# Altium schematic symbol library flight-controller.SchLib: 114 symbols
Pins are listed as number, name and electrical type; pins without a type are passive.

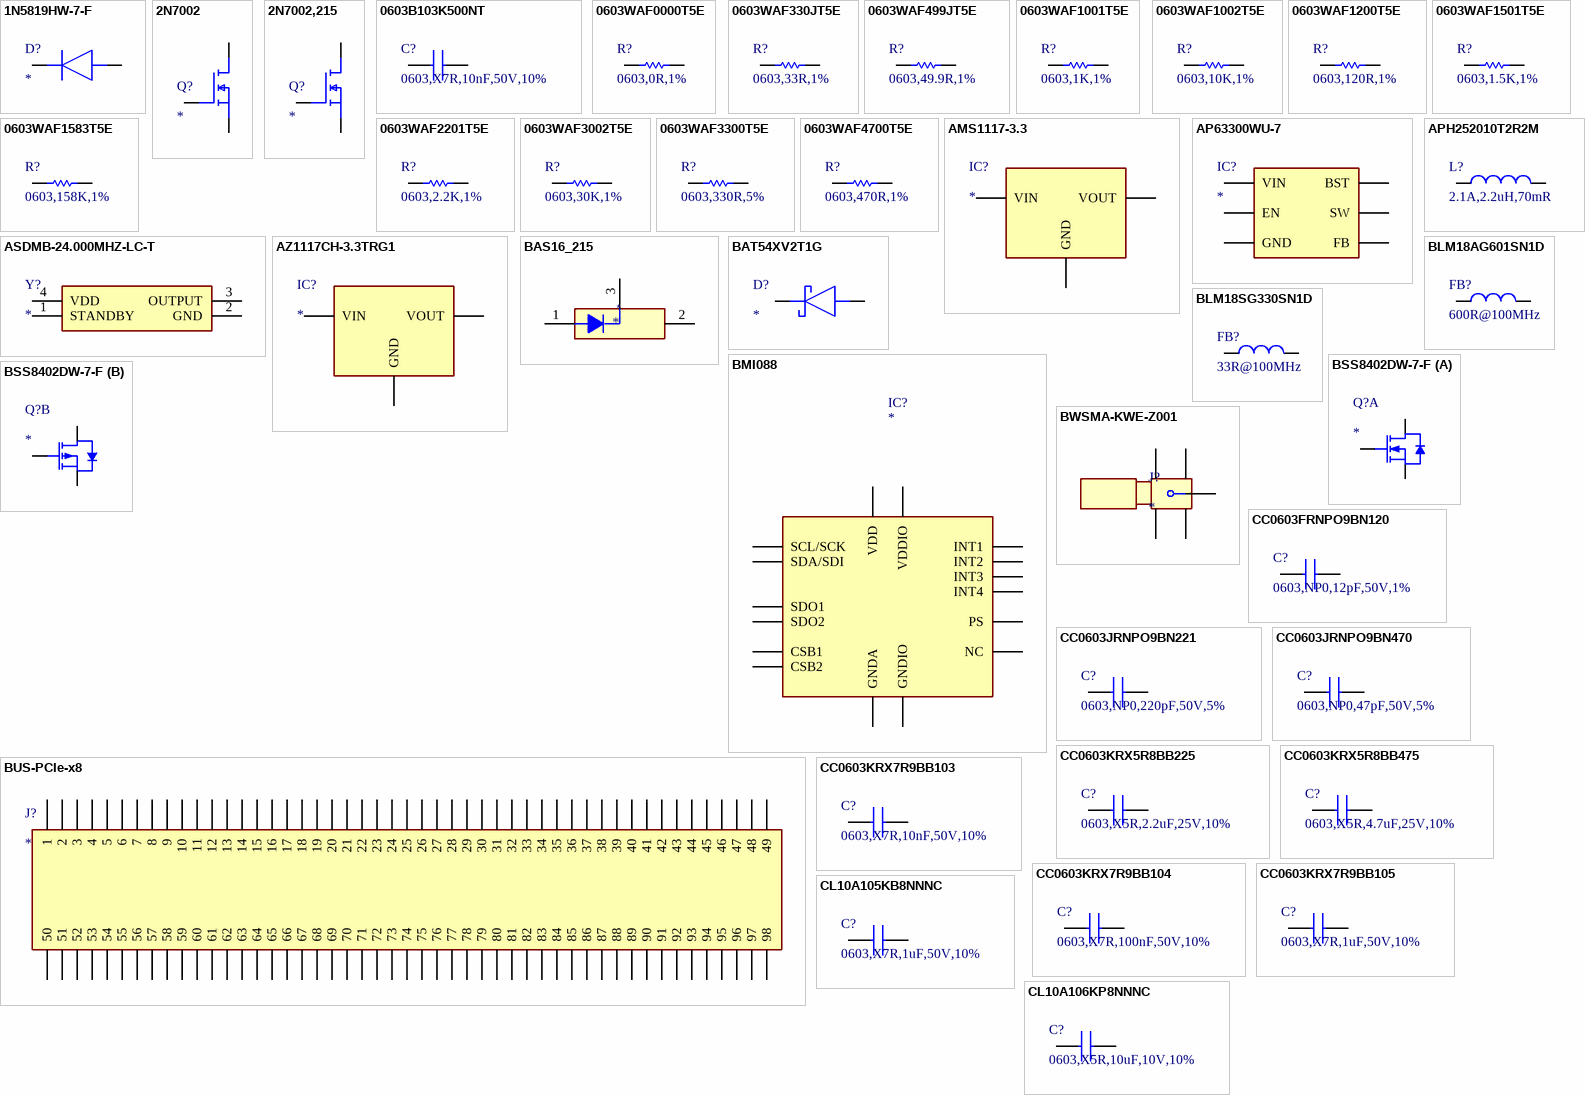
[diagram p0: symbols 1N5819HW-7-F to CL10A106KP8NNNC]

## 1N5819HW-7-F
designator D?
25A 1 Independent 40V 450mV@1A 1A SOD-123 Single Diodes RoHS; Manu Part #: 1N5819HW-7-F; LCSC Part #: C82544
footprint SOD3716X125N
pins: 1 K, 2 A

## 2N7002
designator Q?
N-Channel 60V 300mA 830mW Surface Mount SOT-23; Manu Part #: 2N7002; LCSC Part #: C8545
footprint SOT95P230X110-3N
pins: 1 G, 2 S, 3 D

## 2N7002,215
designator Q?
N-Channel 60V 300mA 830mW Surface Mount SOT-23; Manu Part #: 2N7002,215; LCSC Part #: C65189
footprint SOT95P230X110-3N
pins: 1 G, 2 S, 3 D

## 0603B103K500NT
designator C?, comment 0603,X7R,10nF,50V,10%
10nF ±10% 50V Ceramic Capacitor X7R 0603; Manu Part #: 0603B103K500NT; LCSC Part #: C57112
footprint CAPC1608X90N
pins: 1, 2

## 0603WAF0000T5E
designator R?, comment 0603,0R,1%
0Ω 100mW 75V Thick Film Resistor ±1% 0603 Chip Resistor - Surface Mount RoHS; Manu Part #: 0603WAF0000T5E; LCSC Part #: C21189
footprint RESC1608X90N
pins: 1, 2

## 0603WAF330JT5E
designator R?, comment 0603,33R,1%
100mW 33Ω 75V Thick Film Resistor ±100ppm/℃ ±1% 0603 Chip Resistor - Surface Mount RoHS; Manu Part #: 0603WAF330JT5E; LCSC Part #: C23140
footprint RESC1608X90N
pins: 1, 2

## 0603WAF499JT5E
designator R?, comment 0603,49.9R,1%
-55℃~+155℃ 100mW 49.9Ω 75V Thick Film Resistor ±1% ±100ppm/℃ 0603 Chip Resistor - Surface Mount ROHS; Manu Part #: 0603WAF499JT5E; LCSC Part #: C23185
footprint RESC1608X90N
pins: 1, 2

## 0603WAF1001T5E
designator R?, comment 0603,1K,1%
100mW 1kΩ 75V Thick Film Resistor ±100ppm/℃ ±1% 0603 Chip Resistor - Surface Mount RoHS; Manu Part #: 0603WAF1001T5E; LCSC Part #: C21190
footprint RESC1608X90N
pins: 1, 2

## 0603WAF1002T5E
designator R?, comment 0603,10K,1%
100mW Thick Film Resistor 75V ±100ppm/℃ ±1% 10kΩ 0603 Chip Resistor - Surface Mount ROHS; Manu Part #: 0603WAF1002T5E; LCSC Part #: C25804
footprint RESC1608X90N
pins: 1, 2

## 0603WAF1200T5E
designator R?, comment 0603,120R,1%
-55℃~+155℃ 100mW 120Ω 75V Thick Film Resistor ±1% ±100ppm/℃ 0603 Chip Resistor - Surface Mount ROHS; Manu Part #: 0603WAF1200T5E; LCSC Part #: C22787
footprint RESC1608X90N
pins: 1, 2

## 0603WAF1501T5E
designator R?, comment 0603,1.5K,1%
100mW 1.5kΩ 75V Thick Film Resistor ±100ppm/℃ ±1% 0603 Chip Resistor - Surface Mount RoHS; Manu Part #: 0603WAF1501T5E; LCSC Part #: C22843
footprint RESC1608X90N
pins: 1, 2

## 0603WAF1583T5E
designator R?, comment 0603,158K,1%
-55℃~+155℃ 100mW 158kΩ 75V Thick Film Resistor ±1% ±100ppm/℃ 0603 Chip Resistor - Surface Mount ROHS; Manu Part #: 0603WAF1583T5E; LCSC Part #: C22883
footprint RESC1608X90N
pins: 1, 2

## 0603WAF2201T5E
designator R?, comment 0603,2.2K,1%
2.2kΩ ±1% 100mW 0603 Thick Film Resistor; Manu Part #: 0603WAF2201T5E; LCSC Part #: C4190
footprint RESC1608X90N
pins: 1, 2

## 0603WAF3002T5E
designator R?, comment 0603,30K,1%
-55℃~+155℃ 100mW 30kΩ 75V Thick Film Resistor ±1% ±100ppm/℃ 0603 Chip Resistor - Surface Mount ROHS; Manu Part #: 0603WAF3002T5E; LCSC Part #: C22984
footprint RESC1608X90N
pins: 1, 2

## 0603WAF3300T5E
designator R?, comment 0603,330R,5%
330 Ohms ±5% 0.1W, 1/10W Chip Resistor 0603 (1608 Metric) Moisture Resistant Thick Film; Manu Part #: 0603WAF3300T5E; LCSC Part #: C23138
footprint RESC1608X90N
pins: 1, 2

## 0603WAF4700T5E
designator R?, comment 0603,470R,1%
-55℃~+155℃ 100mW 470Ω 75V Thick Film Resistor ±1% ±100ppm/℃ 0603 Chip Resistor - Surface Mount ROHS; Manu Part #: 0603WAF4700T5E; LCSC Part #: C23179
footprint RESC1608X90N
pins: 1, 2

## AMS1117-3.3
designator IC?
70dB@(120Hz) 1.35A Fixed 3.3V Positive 10V SOT-223 Voltage Regulators - Linear, Low Drop Out (LDO) Regulators ROHS; Manu Part #: AMS1117-3.3; LCSC Part #: C6186
footprint SOT230P700X180-4N
pins: 1 GND, 2 OUTPUT, 3 VIN, 4 VOUT

## AP63300WU-7
designator IC?
3.8V to 32V Input, 3A Low IQ Synchronous Buck Converter with Enhanced EMI Reduction; Manu Part #: AP63300WU-7; LCSC Part #: C2158012
footprint SOT95P280X90-6N
pins: 1 FB, 2 EN, 3 VIN, 4 GND, 5 SW, 6 BST

## APH252010T2R2M
designator L?, comment 2.1A,2.2uH,70mR
380mΩ ±25% 600Ω@100MHz 0603 Ferrite Beads ROHS; Manu Part #: APH252010T2R2M; LCSC Part #: C5349606
footprint IND-SMD_L2.5-W2.0_YXMBL252010P
pins: 1, 2

## ASDMB-24.000MHZ-LC-T
designator Y?
Crystal or Oscillator; Manufacturer_Name: ABRACON; Manufacturer_Part_Number: ASDMB-24.000MHZ-LC-T; Datasheet Link: https://abracon.com/Oscillators/ASDMB.pdf; Height: 0.9mm; Mouser Part Number: 815-ASDMB-24MHZ-LC; Mouser Price/Stock: https://www.mouser.co.uk/ProductDetail/ABRACON/ASDMB-24.000MHZ-LC-T?qs=3YAjQa1E1Okjp7CSlslF1w%3D%3D; Arrow Part Number: ASDMB-24.000MHZ-LC-T; Arrow Price/Stock: https://www.arrow.com/en/products/asdmb-24.000mhz-lc-t/abracon?utm_currency=USD&region=nac
footprint AbraconASDMB
pins: 1 STANDBY, 2 GND, 3 OUTPUT, 4 VDD

## AZ1117CH-3.3TRG1
designator IC?
70dB@(120Hz) 1.35A Fixed 3.3V Positive 10V SOT-223 Voltage Regulators - Linear, Low Drop Out (LDO) Regulators ROHS; Manu Part #: AZ1117CH-3.3TRG1; LCSC Part #: C92102
footprint SOT230P700X180-4N
pins: 1 GND, 2 OUTPUT, 3 VIN, 4 VOUT

## BAS16_215
designator *
1.25V@150mA 100V 215mA 250mW 4A 4ns 500nA@80V Independent SOT-23 Switching Diodes ROHS; Manu Part #: BAS16,215; LCSC Part #: C79997
footprint BAS16_215
pins: 1, 2, 3

## BAT54XV2T1G
designator D?
Diode 30V 200mA Surface Mount SOD-523; Manu Part #: BAT54XV2T1G; LCSC Part #: C81572
footprint SOD523
pins: 1 K, 2 A

## BLM18AG601SN1D
designator FB?, comment 600R@100MHz
380mΩ ±25% 600Ω@100MHz 0603 Ferrite Beads ROHS; Manu Part #: BLM18AG601SN1D; LCSC Part #: C19330
footprint BLM18SP221SN1B
pins: 1, 2

## BLM18SG330SN1D
designator FB?, comment 33R@100MHz
33Ω@100MHz 1 Line Ferrite Bead 0603 6A 8mΩ; Manu Part #: BLM18SG330SN1D; LCSC Part #: C576399
footprint BLM18SP221SN1B
pins: 1, 2

## BMI088
designator IC?
Inertial Measurement Unit IMU 6-Axis LGA; Manu Part #: BMI088; LCSC Part #: C194919
footprint BMI088
pins: 1 INT2, 2 NC, 3 VDD, 4 GNDA, 5 CSB2, 6 GNDIO, 7 PS, 8 SCL/SCK, 9 SDA/SDI, 10 SDO2, 11 VDDIO, 12 INT3, 13 INT4, 14 CSB1, 15 SDO1, 16 INT1

## BSS8402DW-7-F
designator Q?
N-Channel+P-Channel Array 60V 130mA 200mW Surface Mount SOT-363; Manu Part #: BSS8402DW-7-F; LCSC Part #: C156386
footprint SOT65P210X110-6N
part A pins: 1 S1, 2 G1, 6 D1
part B pins: 3 D2, 4 S2, 5 G2

## BUS-PCIe-x8
designator J?  (no BOM)
PCIe x8
footprint BUS_PCIexpress_x8
pins: 1, 2, 3, 4, 5, 6, 7, 8, 9, 10, 11, 12, 13, 14, 15, 16, 17, 18, 19, 20, 21, 22, 23, 24, 25, 26, 27, 28, 29, 30, 31, 32, 33, 34, 35, 36, 37, 38, 39, 40, 41, 42, 43, 44, 45, 46, 47, 48, 49, 50, 51, 52, 53, 54, 55, 56, 57, 58, 59, 60, 61, 62, 63, 64, 65, 66, 67, 68, 69, 70, 71, 72, 73, 74, 75, 76, 77, 78, 79, 80, 81, 82, 83, 84, 85, 86, 87, 88, 89, 90, 91, 92, 93, 94, 95, 96, 97, 98

## BWSMA-KWE-Z001
designator J?
Connector Receptacle SMA Female Pin 50Ω Through Hole Right Angle; Manu Part #: BWSMA-KWE-Z001; LCSC Part #: C496551
footprint SMA-TH_BWSMA-KWE-Z001
pins: 1, 2, 3, 4, 5

## CC0603FRNPO9BN120
designator C?, comment 0603,NP0,12pF,50V,1%
12pF ±1% 50V Ceramic Capacitor NP0 0603; Manu Part #: CC0603FRNPO9BN120; LCSC Part #: C519482
footprint CAPC1608X90N
pins: 1, 2

## CC0603JRNPO9BN221
designator C?, comment 0603,NP0,220pF,50V,5%
220pF ±5% 50V Ceramic Capacitor NP0 0603; Manu Part #: CC0603JRNPO9BN221; LCSC Part #: C106210
footprint CAPC1608X90N
pins: 1, 2

## CC0603JRNPO9BN470
designator C?, comment 0603,NP0,47pF,50V,5%
47 pF ±5% 50V Ceramic Capacitor C0G, NP0 0603 (1608 Metric); Manu Part #: CC0603JRNPO9BN470; LCSC Part #: C105622
footprint CAPC1608X90N
pins: 1, 2

## CC0603KRX5R8BB225
designator C?, comment 0603,X5R,2.2uF,25V,10%
2.2 µF ±10% 25V Ceramic Capacitor X5R 0603 (1608 Metric); Manufacturer_Name: YAGEO; Manufacturer_Part_Number: CC0603JRNPO9BN560; Manu Part #: CC0603KRX5R8BB225; Datasheet Link: https://www.yageo.com/upload/media/product/app/datasheet/mlcc/upy-gphc_x7r_6_3v-to-250v.pdf; Height: 0.95mm; Mouser Part Number: 603-CC603KRX7R9BB105; Mouser Price/Stock: https://www.mouser.co.uk/ProductDetail/YAGEO/CC0603KRX7R9BB105?qs=6wERJjOp3mmF17%252BYi8cgJQ%3D%3D; Arrow Part Number: CC0603KRX7R9BB105; Arrow Price/Stock: https://www.arrow.com/en/products/cc0603krx7r9bb105/yageo?utm_currency=USD&region=nac; LCSC Part #: C309478
footprint CAPC1608X90N
pins: 1, 2

## CC0603KRX5R8BB475
designator C?, comment 0603,X5R,4.7uF,25V,10%
4.7uF ±10% 25V Ceramic Capacitor X5R 0603; Manu Part #: CC0603KRX5R8BB475; LCSC Part #: C32658069
footprint CAPC1608X90N
pins: 1, 2

## CC0603KRX7R9BB103
designator C?, comment 0603,X7R,10nF,50V,10%
10nF ±10% 50V Ceramic Capacitor X7R 0603; Manu Part #: CC0603KRX7R9BB103; LCSC Part #: C100042
footprint CAPC1608X90N
pins: 1, 2

## CC0603KRX7R9BB104
designator C?, comment 0603,X7R,100nF,50V,10%
50V 100nF X7R ±10% 0603 Multilayer Ceramic Capacitors MLCC - SMD/SMT ROHS; Manu Part #: CC0603KRX7R9BB104; LCSC Part #: C14663
footprint CAPC1608X90N
pins: 1, 2

## CC0603KRX7R9BB105
designator C?, comment 0603,X7R,1uF,50V,10%
50V 1uF X7R ±10% 0603 Multilayer Ceramic Capacitors MLCC - SMD/SMT ROHS; Manu Part #: CC0603KRX7R9BB105; LCSC Part #: C559769
footprint CAPC1608X90N
pins: 1, 2

## CL10A105KB8NNNC
designator C?, comment 0603,X7R,1uF,50V,10%
50V 1uF X7R ±10% 0603 Multilayer Ceramic Capacitors MLCC - SMD/SMT ROHS; Manu Part #: CL10A105KB8NNNC; LCSC Part #: C15849
footprint CAPC1608X90N
pins: 1, 2

## CL10A106KP8NNNC
designator C?, comment 0603,X5R,10uF,10V,10%
10uF ±10% 10V Ceramic Capacitor X5R 0603; Manu Part #: CL10A106KP8NNNC; LCSC Part #: C19702
footprint CAPC1608X90N
pins: 1, 2

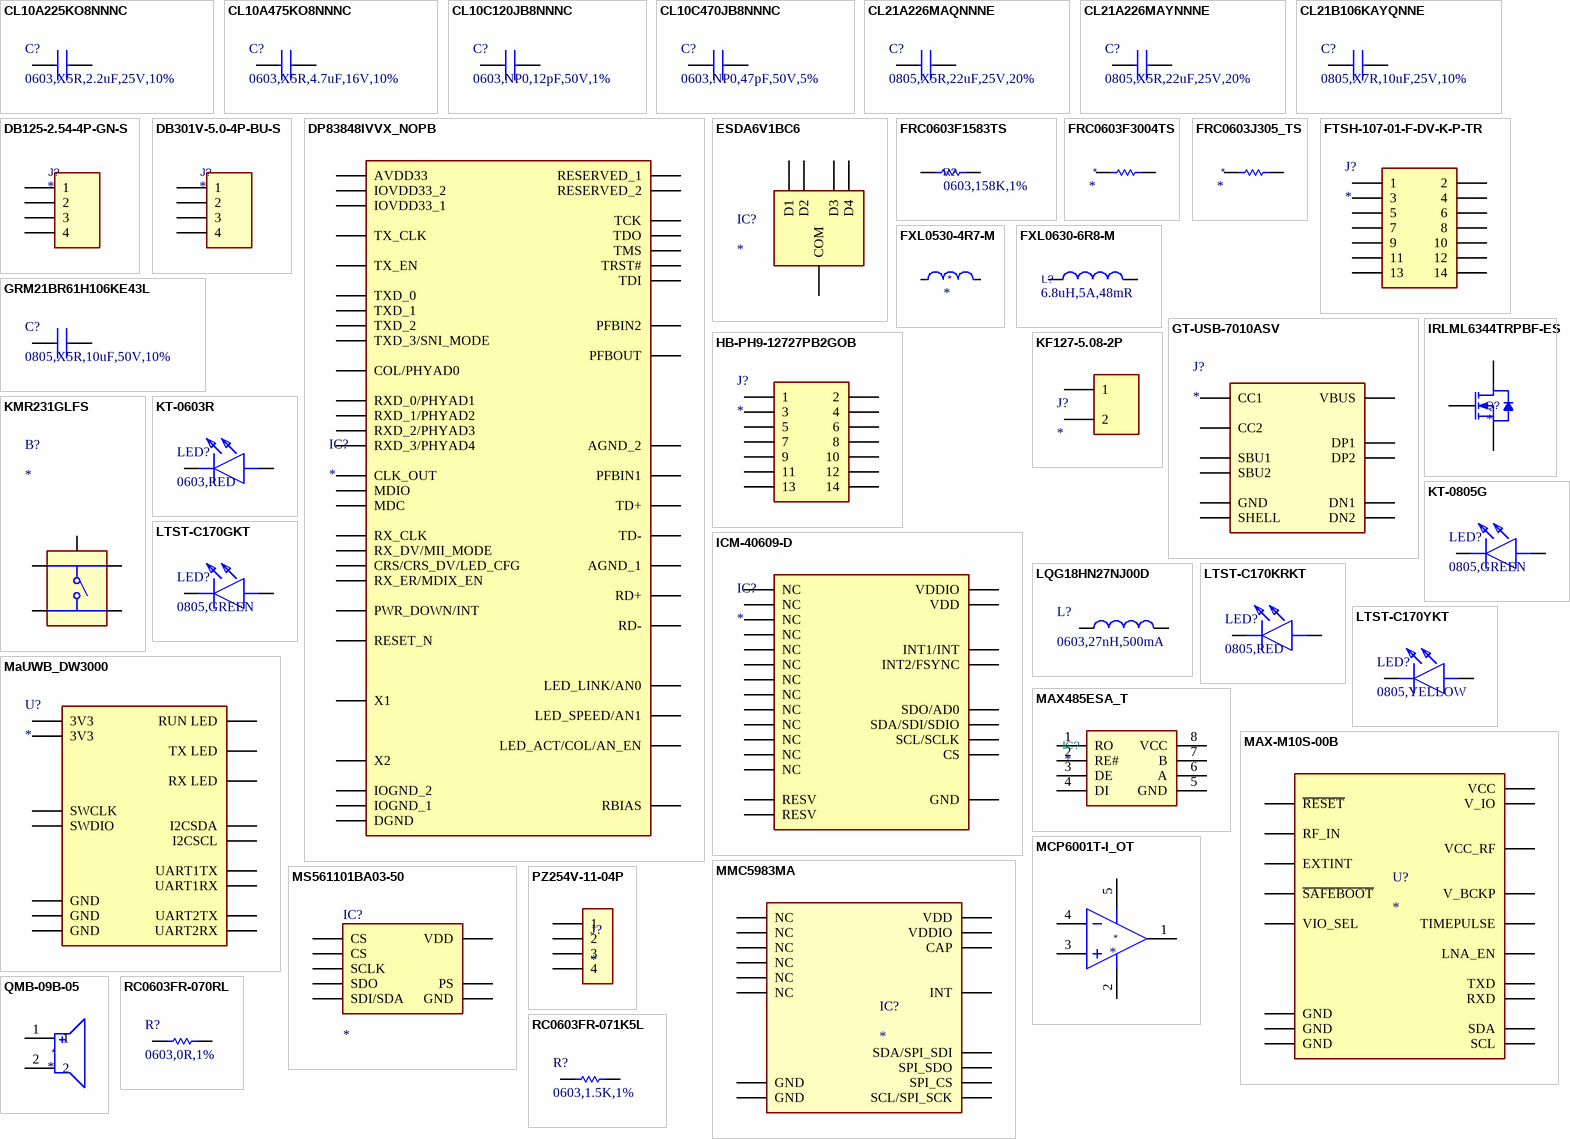
[diagram p1: symbols CL10A225KO8NNNC to RC0603FR-071K5L]

## CL10A225KO8NNNC
designator C?, comment 0603,X5R,2.2uF,25V,10%
2.2 µF ±10% 25V Ceramic Capacitor X5R 0603 (1608 Metric); Manu Part #: CL10A225KO8NNNC; LCSC Part #: C23630
footprint CAPC1608X90N
pins: 1, 2

## CL10A475KO8NNNC
designator C?, comment 0603,X5R,4.7uF,16V,10%
16V 4.7uF X5R ±10% 0603 Multilayer Ceramic Capacitors MLCC - SMD/SMT ROHS; Manu Part #: CL10A475KO8NNNC; LCSC Part #: C19666
footprint CAPC1608X90N
pins: 1, 2

## CL10C120JB8NNNC
designator C?, comment 0603,NP0,12pF,50V,1%
12pF ±1% 50V Ceramic Capacitor NP0 0603; Manu Part #: CL10C120JB8NNNC; LCSC Part #: C38523
footprint CAPC1608X90N
pins: 1, 2

## CL10C470JB8NNNC
designator C?, comment 0603,NP0,47pF,50V,5%
47 pF ±5% 50V Ceramic Capacitor C0G, NP0 0603 (1608 Metric); Manu Part #: CL10C470JB8NNNC; LCSC Part #: C1671
footprint CAPC1608X90N
pins: 1, 2

## CL21A226MAQNNNE
designator C?, comment 0805,X5R,22uF,25V,20%
22uF ±20% 25V Ceramic Capacitor X5R 0805; Manu Part #: CL21A226MAQNNNE; LCSC Part #: C45783
footprint CAPC2012X145N
pins: 1, 2

## CL21A226MAYNNNE
designator C?, comment 0805,X5R,22uF,25V,20%
22uF ±20% 25V Ceramic Capacitor X5R 0805; Manu Part #: CL21A226MAYNNNE; LCSC Part #: C602037
footprint CAPC2012X145N
pins: 1, 2

## CL21B106KAYQNNE
designator C?, comment 0805,X7R,10uF,25V,10%
10uF ±10% 25V Ceramic Capacitor X7R 0805; Manu Part #: CL21B106KAYQNNE; LCSC Part #: C3039694
footprint CAPC2012X145N
pins: 1, 2

## DB125-2.54-4P-GN-S
designator J?
4 Position Wire to Board Terminal Block Through Hole 2.54mm; Manu Part #: DB125-2.54-4P-GN-S; LCSC Part #: C918122
footprint DB125-2_54-4P-GN
pins: 1, 2, 3, 4

## DB301V-5.0-4P-BU-S
designator J?
4 Position Wire to Board Terminal Block Through Hole 5mm; Manu Part #: DB301V-5.0-4P-BU-S; LCSC Part #: C3034542
footprint DB301V-5_0-4P-BU-S
pins: 1, 2, 3, 4

## DP83848IVVX_NOPB
designator IC?
Single Port 10/100 Mb/s Ethernet Physical Layer Transceiver; Manu Part #: DP83848IVVX/NOPB; LCSC Part #: C12082
footprint QFP50P900X900X160-48N
pins: 1 TX_CLK, 2 TX_EN, 3 TXD_0, 4 TXD_1, 5 TXD_2, 6 TXD_3/SNI_MODE, 7 PWR_DOWN/INT, 8 TCK, 9 TDO, 10 TMS, 11 TRST#, 12 TDI, 13 RD-, 14 RD+, 15 AGND_1, 16 TD-, 17 TD+, 18 PFBIN1, 19 AGND_2, 20 RESERVED_1, 21 RESERVED_2, 22 AVDD33, 23 PFBOUT, 24 RBIAS, 25 CLK_OUT, 26 LED_ACT/COL/AN_EN, 27 LED_SPEED/AN1, 28 LED_LINK/AN0, 29 RESET_N, 30 MDIO, 31 MDC, 32 IOVDD33_1, 33 X2, 34 X1, 35 IOGND_1, 36 DGND, 37 PFBIN2, 38 RX_CLK, 39 RX_DV/MII_MODE, 40 CRS/CRS_DV/LED_CFG, 41 RX_ER/MDIX_EN, 42 COL/PHYAD0, 43 RXD_0/PHYAD1, 44 RXD_1/PHYAD2, 45 RXD_2/PHYAD3, 46 RXD_3/PHYAD4, 47 IOGND_2, 48 IOVDD33_2

## ESDA6V1BC6
designator IC?
Clamp Ipp Tvs Diode Surface Mount SOT-23-6; Manu Part #: ESDA6V1BC6; LCSC Part #: C495220
footprint SOT95P280X145-6N
pins: 1 D1, 2 COM, 3 D2, 4 D3, 5 COM, 6 D4

## FRC0603F1583TS
designator R?, comment 0603,158K,1%
-55℃~+155℃ 100mW 158kΩ 75V Thick Film Resistor ±1% ±100ppm/℃ 0603 Chip Resistor - Surface Mount ROHS; Manu Part #: FRC0603F1583TS
footprint RESC1608X55N
pins: 1, 2

## FRC0603F3004TS
designator *
-55℃~+155℃ 100mW 3MΩ 75V Thick Film Resistor ±1% ±100ppm/℃ 0603 Chip Resistor - Surface Mount ROHS; Manu Part #: FRC0603F3004TS; LCSC Part #: C2930149
footprint RESC1608X55N
pins: 1, 2

## FRC0603J305_TS
designator *
-55℃~+155℃ 100mW 3MΩ 75V Thick Film Resistor ±100ppm/℃ ±5% 0603 Chip Resistor - Surface Mount ROHS; Manu Part #: FRC0603J305 TS; LCSC Part #: C2907163
footprint RESC1608X55N
pins: 1, 2

## FTSH-107-01-F-DV-K-P-TR
designator J?
Connector Header Surface Mount 14 position 0.050" (1.27mm); Manu Part #: FTSH-107-01-F-DV-K-P-TR; LCSC Part #: C5276598
footprint FTSH-107-XX-YYY-DV-K-P-TR
pins: 1, 2, 3, 4, 5, 6, 7, 8, 9, 10, 11, 12, 13, 14

## FXL0530-4R7-M
designator *
4.5A 4.7uH 5A 60mΩ Molded Inductor ±20% SMD,5.4x5.2mm Power Inductors ROHS; Manufacturer: cjiang (Changjiang Microelectronics Tech); Manufacturer Part: FXL0530-4R7-M; ki_keywords: C177246 FXL0530-4R7-M IND-SMD_L5.4-W5.2_FXL0530 cjiang (Changjiang Microelectronics Tech); Footprint: JLCImport:FXL0530-4R7-M; Datasheet: https://www.lcsc.com/datasheet/lcsc_datasheet_2404260919_cjiang--Changjiang-Microelectronics-Tech-FXL0530-4R7-M_C177246.pdf; Description_: 4.5A 4.7uH 5A 60mΩ Molded Inductor ±20% SMD,5.4x5.2mm Power Inductors ROHS; LCSC: C177246
footprint FXL0530-4R7-M
pins: 1, 2

## FXL0630-6R8-M
designator L?, comment 6.8uH,5A,48mR
48mΩ 5A 6.8uH 6A Molded Inductor ±20% SMD,7x6.6mm Power Inductors ROHS; Manu Part #: FXL0630-6R8-M; LCSC Part #: C167221
footprint FXL0630-6R8-M
pins: 1, 2

## GRM21BR61H106KE43L
designator C?, comment 0805,X5R,10uF,50V,10%
10uF 50V X5R ±10% 0805 Multilayer Ceramic Capacitors MLCC - SMD/SMT ROHS; Manu Part #: GRM21BR61H106KE43L; LCSC Part #: C440198
footprint CAPC2012X145N
pins: 1, 2

## GT-USB-7010ASV
designator J?
USB 2.0 3A 1 Surface Mount, Right Angle 16P Female -40℃~+85℃ Type-C SMD USB Connectors ROHS; Manu Part #: GT-USB-7010ASV; LCSC Part #: C2988369
footprint USB-C-SMD_G-SWITCH_GT-USB-7010ASV
pins: 1 SHELL, 2 SHELL, 3 SHELL, 4 SHELL, A1B12 GND, A4B9 VBUS, A5 CC1, A6 DP1, A7 DN1, A8 SBU1, B1A12 GND, B4A9 VBUS, B5 CC2, B6 DP2, B7 DN2, B8 SBU2

## HB-PH9-12727PB2GOB
designator J?
Pin Header 2 1mm 4mm 14P -40℃~+105℃ 1.27mm 1A 250V 2x7P 1.27mm SMD,P=1.27mm Headers, Male Pins RoHS; Manu Part #: HB-PH9-12727PB2GOB; LCSC Part #: C6332251
footprint HB-PH9-12727PB2GOB
pins: 1, 2, 3, 4, 5, 6, 7, 8, 9, 10, 11, 12, 13, 14

## ICM-40609-D
designator IC?
LGA24-3x3 IMUs (Inertial Measurement Units) RoHS; Manu Part #: ICM-40609-D; LCSC Part #: C5360621
footprint LGA-24_L3.0-W3.0-P0.40-TL
pins: 1 NC, 2 NC, 3 NC, 4 NC, 5 NC, 6 NC, 7 NC, 8 VDDIO, 9 SDO/AD0, 10 NC, 11 RESV, 12 INT1/INT, 13 VDD, 14 NC, 15 NC, 16 NC, 17 NC, 18 GND, 19 INT2/FSYNC, 20 RESV, 21 NC, 22 CS, 23 SCL/SCLK, 24 SDA/SDI/SDIO

## IRLML6344TRPBF-ES
designator Q?
1 N-channel 1.4W 1.6V 170pF 25pF 30V 34mΩ@10V、50mΩ@4.5V 35pF 4.1nC@10V 4.3A N-Channel SOT-23 MOSFETs ROHS; Manu Part #: IRLML6344TRPBF-ES; LCSC Part #: C21713845
footprint IRLML6344TRPBF-ES
pins: 1 G, 2 S, 3 D

## KF127-5.08-2P
designator J?
2 Position Wire to Board Terminal Block Through Hole 5.08mm; Manu Part #: KF127-5.08-2P; LCSC Part #: C474906
footprint KF127-5_08-2P
pins: 1, 2

## KMR231GLFS
designator B?
Tactile Switch SPST 300gf 1.9mm Gull Wing 4.6mm x 2.8mm Surface Mount; Manu Part #: KMR231GLFS; LCSC Part #: C99271
footprint KMR231GLFS
pins: 1, 2, 3, 4, 5

## KT-0603R
designator LED?, comment 0603,RED
-40℃~+85℃ 1.8V~2.4V 120° 20mA 300mcd 40mW 615nm~630nm 645nm Discrete Diode Red Water Clear 0603 LED Indication - Discrete ROHS; Manu Part #: KT-0603R; LCSC Part #: C2286
footprint LEDC1608X36N
pins: 1 K, 2 A

## KT-0805G
designator LED?, comment 0805,GREEN
Green 569nm LED Indication - Discrete 2.1V 0805 (2012 Metric); Manu Part #: KT-0805G; LCSC Part #: C2297
footprint LEDC2012X120N
pins: 1 K, 2 A

## LQG18HN27NJ00D
designator L?, comment 0603,27nH,500mA
27 nH Unshielded Multilayer Inductor 500 mA 550mOhm Max 0603 (1608 Metric); Manu Part #: LQG18HN27NJ00D; LCSC Part #: C162550
footprint INDC1608X90N
pins: 1, 2

## LTST-C170GKT
designator LED?, comment 0805,GREEN
Green 569nm LED Indication - Discrete 2.1V 0805 (2012 Metric); Manu Part #: LTST-C170GKT; LCSC Part #: C125090
footprint LEDC2012X120N
pins: 1 K, 2 A

## LTST-C170KRKT
designator LED?, comment 0805,RED
Red 631nm LED Indication - Discrete 2V 0805 (2012 Metric); Manu Part #: LTST-C170KRKT; LCSC Part #: C94868
footprint LEDC2012X120N
pins: 1 K, 2 A

## LTST-C170YKT
designator LED?, comment 0805,YELLOW
Yellow 585nm LED Indication - Discrete 2.1V 0805; Manu Part #: LTST-C170YKT; LCSC Part #: C125092
footprint LEDC2012X120N
pins: 1 K, 2 A

## MaUWB_DW3000
designator U?  (no BOM)
Makerfabs UWBATModule
footprint MaUWB_DW3000
pins: 1 3V3, 2 3V3, 3 I2CSDA, 4 I2CSCL, 5 SWCLK, 6 SWDIO, 7 GND, 8 GND, 9 RUN LED, 10 UART2TX, 11 UART2RX, 12 TX LED, 13 RX LED, 14 UART1TX, 15 UART1RX, 16 GND

## MAX485ESA_T
designator IC?
-40℃~+85℃ 1 1 2.5Mbps 4.75V~5.25V Transceiver SOIC-8 RS-485 / RS-422 ICs ROHS; Manu Part #: MAX485ESA+T; LCSC Part #: C19738
footprint MAX485ESA_T
pins: 1 RO, 2 RE#, 3 DE, 4 DI, 5 GND, 6 A, 7 B, 8 VCC

## MAX-M10S-00B
designator U?
Standard precision GNSS module; Manu Part #: MAX-M10S-00B; LCSC Part #: C4153167
footprint XCVR_MAX-M10S-00B
pins: 1 GND, 2 TXD, 3 RXD, 4 TIMEPULSE, 5 EXTINT, 6 V_BCKP, 7 V_IO, 8 VCC, 9 ~{RESET}, 10 GND, 11 RF_IN, 12 GND, 13 LNA_EN, 14 VCC_RF, 15 VIO_SEL, 16 SDA, 17 SCL, 18 ~{SAFEBOOT}

## MCP6001T-I_OT
designator *
-40℃~+85℃ 1 1.8V~6V 100uA 1MHz 1pA 1pA 23mA 28nV/√Hz@1kHz 2uV/℃ 4.5mV 600V/ms 6V 76dB Rail-to-Rail Input, Rail-to-Rail Output SOT-23-5 Operational Amplifier ROHS; Manu Part #: MCP6001T-I/OT; LCSC Part #: C116490
footprint MCP6001T-I_OT
pins: 1 VOUT, 2 VSS, 3 VIN+, 4 VIN-, 5 VDD

## MMC5983MA
designator IC?
±8 Gauss, High Performance 3-axis Magnetic Sensor; Manu Part #: MMC5983MA; LCSC Part #: C404329
footprint LGA-16_L3.0-W3.0-P0.50-BL_SQ
pins: 1 SCL/SPI_SCK, 2 VDD, 3 NC, 4 SPI_CS, 5 SPI_SDO, 6 NC, 7 NC, 8 NC, 9 GND, 10 CAP, 11 GND, 12 NC, 13 VDDIO, 14 NC, 15 INT, 16 SDA/SPI_SDI

## MS561101BA03-50
designator IC?
Barometric Pressure Sensor, with Stainless Steel Cap, 1.8 to 3.6 V, -45 to 85 degC, 8-Pin QFN, RoHS, Tape and Reel; Manu Part #: MS561101BA03-50; LCSC Part #: C15639
footprint MSI-MS561101BA03-50-8_V (SMD, 8-Leads, Body 5x3mm, Pitch 1.25mm)
pins: 1 VDD "Positive supply voltage", 2 PS "Protocol select", 3 GND "Ground", 4 CS "Chip select (active low), internal connection", 5 CS "Serial data output", 6 SDO "Serial data output", 7 SDI/SDA, 8 SCLK "Serial data clock"

## PZ254V-11-04P
designator J?
Pin Header 4 Position 2.54mm Pitch Single Row Through Hole -40℃~+105℃; Manu Part #: PZ254V-11-04P; LCSC Part #: C2691448
footprint HDR-TH_4P-P2.54-V-M
pins: 1, 2, 3, 4

## QMB-09B-05
designator *
-40℃~+85℃ 2.7kHz 3V~7V 5.7mm 5V 60mA 80dB 9mm Electromagnetic Passive (Externally Driven) 插件,D=9mm Buzzers ROHS; Manu Part #: QMB-09B-05; LCSC Part #: C161819
footprint QMB-09B-05
pins: 1, 2

## RC0603FR-070RL
designator R?, comment 0603,0R,1%
0Ω 100mW 75V Thick Film Resistor ±1% 0603 Chip Resistor - Surface Mount RoHS; Manu Part #: RC0603FR-070RL; LCSC Part #: C100044
footprint RESC1608X55N
pins: 1, 2

## RC0603FR-071K5L
designator R?, comment 0603,1.5K,1%
100mW 1.5kΩ 75V Thick Film Resistor ±100ppm/℃ ±1% 0603 Chip Resistor - Surface Mount RoHS; Manu Part #: RC0603FR-071K5L; LCSC Part #: C114668
footprint RESC1608X55N
pins: 1, 2

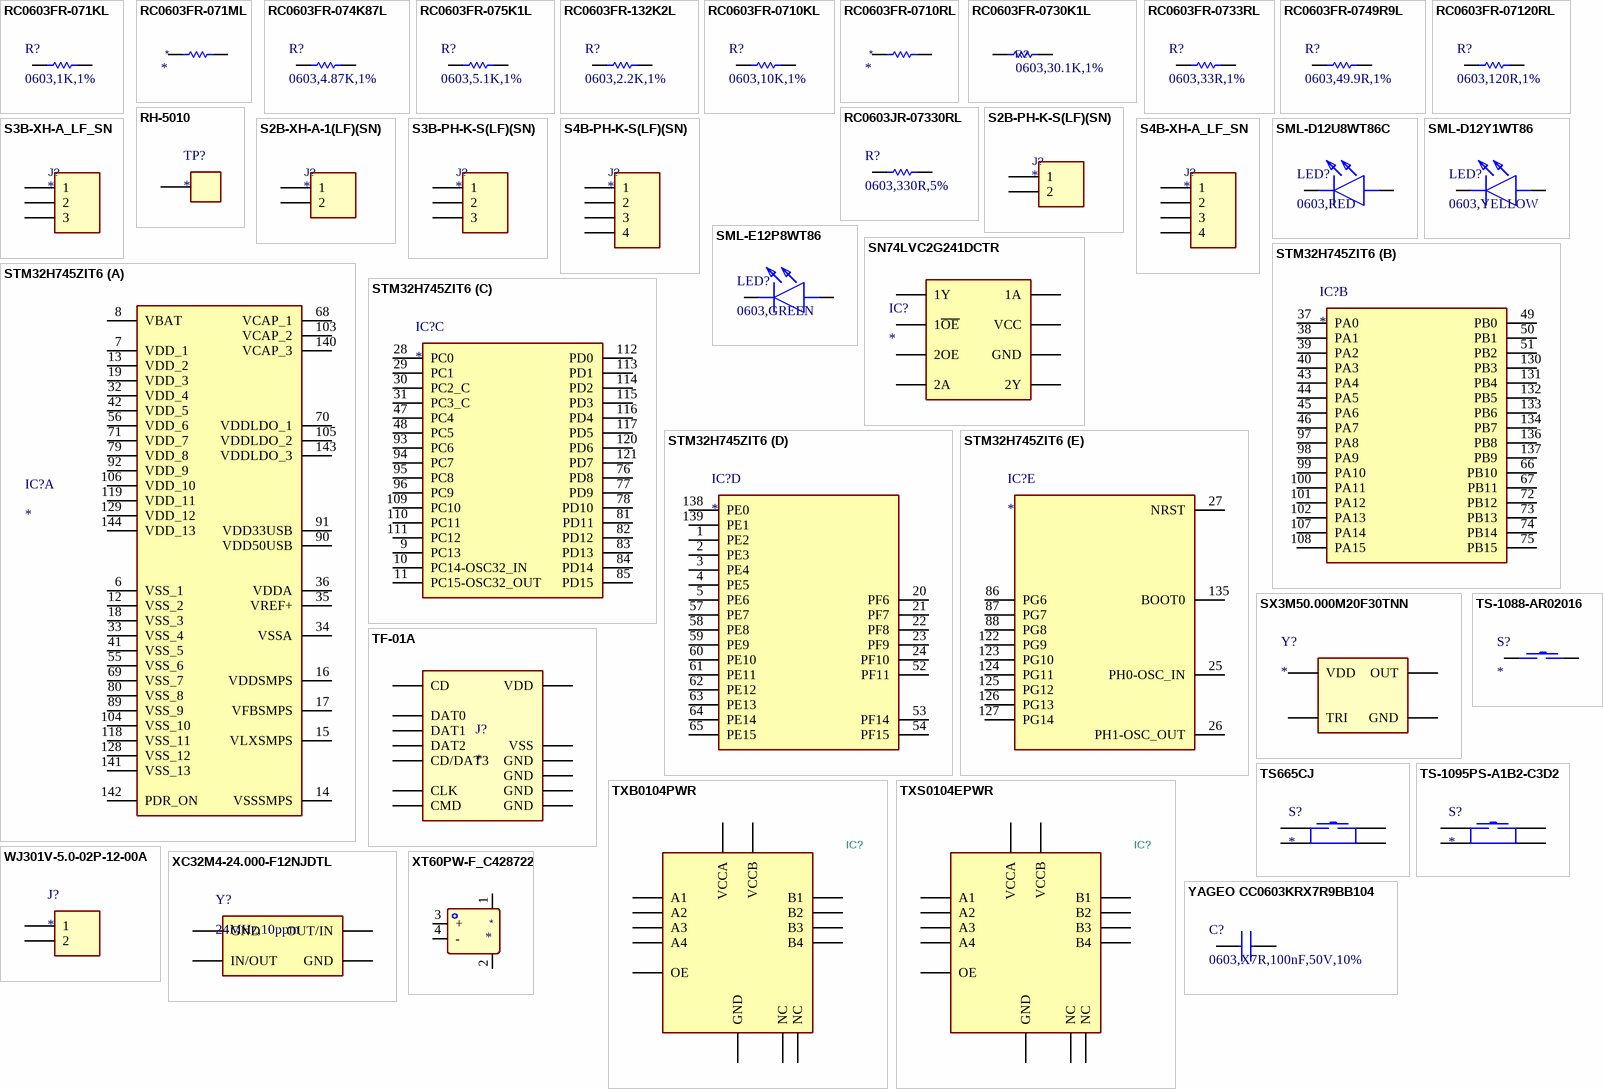
[diagram p2: symbols RC0603FR-071KL to YAGEO CC0603KRX7R9BB104]

## RC0603FR-071KL
designator R?, comment 0603,1K,1%
100mW 1kΩ 75V Thick Film Resistor ±100ppm/℃ ±1% 0603 Chip Resistor - Surface Mount RoHS; Manu Part #: RC0603FR-071KL; LCSC Part #: C22548
footprint RESC1608X55N
pins: 1, 2

## RC0603FR-071ML
designator *
-55℃~+155℃ 100mW 1MΩ 75V Thick Film Resistor ±1% ±100ppm/℃ 0603 Chip Resistor - Surface Mount ROHS; Manu Part #: RC0603FR-071ML; LCSC Part #: C105578
footprint RC0603FR-071ML
pins: 1, 2

## RC0603FR-074K87L
designator R?, comment 0603,4.87K,1%
4.87kΩ 100mW 75V Thick Film Resistor ±100ppm/℃ ±1% 0603 Chip Resistor - Surface Mount RoHS; Manu Part #: RC0603FR-074K87L; LCSC Part #: C137709
footprint RESC1608X55N
pins: 1, 2

## RC0603FR-075K1L
designator R?, comment 0603,5.1K,1%
100mW 5.1kΩ 75V Thick Film Resistor ±100ppm/℃ ±1% 0603 Chip Resistor - Surface Mount RoHS; Manu Part #: RC0603FR-075K1L; LCSC Part #: C105580
footprint RESC1608X55N
pins: 1, 2

## RC0603FR-132K2L
designator R?, comment 0603,2.2K,1%
2.2kΩ ±1% 100mW 0603 Thick Film Resistor; Manu Part #: RC0603FR-132K2L; LCSC Part #: C3032396
footprint RESC1608X55N
pins: 1, 2

## RC0603FR-0710KL
designator R?, comment 0603,10K,1%
100mW Thick Film Resistor 75V ±100ppm/℃ ±1% 10kΩ 0603 Chip Resistor - Surface Mount ROHS; Manu Part #: RC0603FR-0710KL; LCSC Part #: C98220
footprint RESC1608X55N
pins: 1, 2

## RC0603FR-0710RL
designator *
-55℃~+155℃ 100mW 10Ω 75V Thick Film Resistor ±1% ±200ppm/℃ 0603 Chip Resistor - Surface Mount ROHS; Manu Part #: RC0603FR-0710RL; LCSC Part #: C109318
footprint RESC1608X55N
pins: 1, 2

## RC0603FR-0730K1L
designator R?, comment 0603,30.1K,1%
-55℃~+155℃ 100mW 30.1kΩ 75V Thick Film Resistor ±1% ±100ppm/℃ 0603 Chip Resistor - Surface Mount ROHS; Manu Part #: RC0603FR-0730K1L
footprint RESC1608X55N
pins: 1, 2

## RC0603FR-0733RL
designator R?, comment 0603,33R,1%
100mW 33Ω 75V Thick Film Resistor ±100ppm/℃ ±1% 0603 Chip Resistor - Surface Mount RoHS; Manu Part #: RC0603FR-0733RL; LCSC Part #: C108661
footprint RESC1608X55N
pins: 1, 2

## RC0603FR-0749R9L
designator R?, comment 0603,49.9R,1%
100mW 49.9Ω 75V Thick Film Resistor ±100ppm/℃ ±1% 0603 Chip Resistor - Surface Mount RoHS; Manu Part #: RC0603FR-0749R9L; LCSC Part #: C114625
footprint RESC1608X55N
pins: 1, 2

## RC0603FR-07120RL
designator R?, comment 0603,120R,1%
100mW 120Ω 75V Thick Film Resistor ±100ppm/℃ ±1% 0603 Chip Resistor - Surface Mount RoHS; Manu Part #: RC0603FR-07120RL; LCSC Part #: C114640
footprint RESC1608X55N
pins: 1, 2

## RC0603JR-07330RL
designator R?, comment 0603,330R,5%
330 Ohms ±5% 0.1W, 1/10W Chip Resistor 0603 (1608 Metric) Moisture Resistant Thick Film; Manu Part #: RC0603JR-07330RL; LCSC Part #: C105879
footprint RESC1608X55N
pins: 1, 2

## RH-5010
designator TP?
Test Points RoHS; Manu Part #: RH-5010; LCSC Part #: C5199813
footprint RH-5010
pins: 1

## S2B-PH-K-S(LF)(SN)
designator J?
Connector Header 2 position 2mm Pitch 2A Right Angle -25℃~+85℃; Manu Part #: S2B-PH-K-S(LF)(SN); LCSC Part #: C173752
footprint S2B-PH-K-S_LF_SN
pins: 1, 2

## S2B-XH-A-1(LF)(SN)
designator J?
Connector Header 2 position 2.5mm Pitch 3A Right Angle -25℃~+85℃; Manu Part #: S2B-XH-A-1(LF)(SN); LCSC Part #: C163035
footprint S2B-XH-A-1_LF_SN
pins: 1, 2

## S3B-PH-K-S(LF)(SN)
designator J?
Connector Header 3 position 2mm Pitch 2A Right Angle -25℃~+85℃; Manu Part #: S3B-PH-K-S(LF)(SN); LCSC Part #: C157929
footprint S3B-PH-K-S-_LF_SN
pins: 1, 2, 3

## S3B-XH-A_LF_SN
designator J?
-25℃~+85℃ 1 11.5mm 1x3P 2.5mm 250V 3 3A 3P 6.1mm 9.9mm Brass K Pin PA66 Right Angle Tin UL94V-0 White XH 弯插,P=2.5mm Wire To Board Connector ROHS; Manu Part #: S3B-XH-A(LF)(SN); LCSC Part #: C157928
footprint S3B-XH-A_LF_SN
pins: 1, 2, 3

## S4B-PH-K-S(LF)(SN)
designator J?
Connector Header 4 position 2mm Pitch 2A Right Angle -25℃~+85℃; Manu Part #: S4B-PH-K-S(LF)(SN); LCSC Part #: C157926
footprint S4B-PH-K-S-_LF_SN
pins: 1, 2, 3, 4

## S4B-XH-A_LF_SN
designator J?
-25℃~+85℃ 1 11.5mm 12.4mm 1x4P 2.5mm 250V 3A 4 4P 6.1mm Brass K Pin PA66 Right Angle Tin UL94V-0 White XH 弯插,P=2.5mm Wire To Board Connector ROHS; Manu Part #: S4B-XH-A(LF)(SN); LCSC Part #: C157925
footprint S4B-XH-A_LF_SN
pins: 1, 2, 3, 4

## SML-D12U8WT86C
designator LED?, comment 0603,RED
Red LED Indication - Discrete 2.2V 0603; Manu Part #: SML-D12U8WT86C; LCSC Part #: C2846640
footprint LEDC1608X36N
pins: 1 K, 2 A

## SML-D12Y1WT86
designator LED?, comment 0603,YELLOW
Yellow LED Indication - Discrete 2.2V 0603; Manu Part #: SML-D12Y1WT86; LCSC Part #: C253534
footprint LEDC1608X36N
pins: 1 K, 2 A

## SML-E12P8WT86
designator LED?, comment 0603,GREEN
Green LED Indication - Discrete 2.2V 0603; Manu Part #: SML-E12P8WT86; LCSC Part #: C126319
footprint LEDC1608X36N
pins: 1 K, 2 A

## SN74LVC2G241DCTR
designator IC?
SN74LVC2G241 Dual Buffer and Driver with Three-State Outputs; Manu Part #: SN74LVC2G241DCTR; LCSC Part #: C2676069
footprint SOP65P400X130-8N
pins: 1 1~{OE}, 2 1A, 3 2Y, 4 GND, 5 2A, 6 1Y, 7 2OE, 8 VCC

## STM32H745ZIT6
designator IC?
Dual 32-bit Arm Cortex-M7 and -M4 MCUs, up to 2MB Flash, 1MB RAM, 46 com. and analog interfaces, SMPS; Manu Part #: STM32H745ZIT6; LCSC Part #: C730193
footprint QFP50P2200X2200X160-144N
part A pins: 6 VSS_1, 7 VDD_1, 8 VBAT, 12 VSS_2, 13 VDD_2, 14 VSSSMPS, 15 VLXSMPS, 16 VDDSMPS, 17 VFBSMPS, 18 VSS_3, 19 VDD_3, 32 VDD_4, 33 VSS_4, 34 VSSA, 35 VREF+, 36 VDDA, 41 VSS_5, 42 VDD_5, 55 VSS_6, 56 VDD_6, 68 VCAP_1, 69 VSS_7, 70 VDDLDO_1, 71 VDD_7, 79 VDD_8, 80 VSS_8, 89 VSS_9, 90 VDD50USB, 91 VDD33USB, 92 VDD_9, 103 VCAP_2, 104 VSS_10, 105 VDDLDO_2, 106 VDD_10, 118 VSS_11, 119 VDD_11, 128 VSS_12, 129 VDD_12, 140 VCAP_3, 141 VSS_13, 142 PDR_ON, 143 VDDLDO_3, 144 VDD_13
part B pins: 37 PA0, 38 PA1, 39 PA2, 40 PA3, 43 PA4, 44 PA5, 45 PA6, 46 PA7, 49 PB0, 50 PB1, 51 PB2, 66 PB10, 67 PB11, 72 PB12, 73 PB13, 74 PB14, 75 PB15, 97 PA8, 98 PA9, 99 PA10, 100 PA11, 101 PA12, 102 PA13, 107 PA14, 108 PA15, 130 PB3, 131 PB4, 132 PB5, 133 PB6, 134 PB7, 136 PB8, 137 PB9
part C pins: 9 PC13, 10 PC14-OSC32_IN, 11 PC15-OSC32_OUT, 28 PC0, 29 PC1, 30 PC2_C, 31 PC3_C, 47 PC4, 48 PC5, 76 PD8, 77 PD9, 78 PD10, 81 PD11, 82 PD12, 83 PD13, 84 PD14, 85 PD15, 93 PC6, 94 PC7, 95 PC8, 96 PC9, 109 PC10, 110 PC11, 111 PC12, 112 PD0, 113 PD1, 114 PD2, 115 PD3, 116 PD4, 117 PD5, 120 PD6, 121 PD7
part D pins: 1 PE2, 2 PE3, 3 PE4, 4 PE5, 5 PE6, 20 PF6, 21 PF7, 22 PF8, 23 PF9, 24 PF10, 52 PF11, 53 PF14, 54 PF15, 57 PE7, 58 PE8, 59 PE9, 60 PE10, 61 PE11, 62 PE12, 63 PE13, 64 PE14, 65 PE15, 138 PE0, 139 PE1
part E pins: 25 PH0-OSC_IN, 26 PH1-OSC_OUT, 27 NRST, 86 PG6, 87 PG7, 88 PG8, 122 PG9, 123 PG10, 124 PG11, 125 PG12, 126 PG13, 127 PG14, 135 BOOT0

## SX3M50.000M20F30TNN
designator Y?
Oscillator 50MHz ±20ppm CMOS 1.62V~3.63V SMD3225-4P; Manu Part #: SX3M50.000M20F30TNN; LCSC Part #: C2901592
footprint SX3M50_000M20F30TNN
pins: 1 TRI, 2 GND, 3 OUT, 4 VDD

## TF-01A
designator J?
Micro SD card (TF card) Connector and Ejector Push-Push Surface Mount; Manu Part #: TF-01A; LCSC Part #: C41426929
footprint TF-SMD_TF-01A
pins: 1 DAT2, 2 CD/DAT3, 3 CMD, 4 VDD, 5 CLK, 6 VSS, 7 DAT0, 8 DAT1, 9 CD, 10 GND, 11 GND, 12 GND, 13 GND

## TS665CJ
designator S?
Tactile Switch SPST 5mm 6mm x 6mm Through Hole; Manu Part #: TS665CJ; LCSC Part #: C393938
footprint SW-TH_4P-L6.0-W6.0-P4.50-LS6.5
pins: 1, 2, 3, 4

## TS-1088-AR02016
designator S?
Without Bracket 50mA 4mm 100,000 Cycles 12V 1.6N 3mm 2mm Round Button Surface Mount,Vertical SPST SMD Tactile Switches ROHS; Manu Part #: TS-1088-AR02016; LCSC Part #: C720477
footprint SW-SMD_L3.9-W3.0-P4.45
pins: 1, 2

## TS-1095PS-A1B2-C3D2
designator S?
Tactile Switch SPST 180gf 4.3mm Gull Wing 6mm x 6mm Surface Mount; Manu Part #: TS-1095PS-A1B2-C3D2; LCSC Part #: C2834918
footprint SW-TH_4P-L6.0-W6.0-P4.50-LS6.5
pins: 1, 2, 3, 4

## TXB0104PWR
designator IC?
-40℃~+85℃ 1 1.2V~3.6V 1.65V~5.5V 100Mbps 4 Auto Direction Detection Bidirectional CMOS CMOS Tri-State TSSOP-14 Translators, Level Shifters ROHS; Manu Part #: TXB0104PWR; LCSC Part #: C60708
footprint TXB0104PWR
pins: 1 VCCA, 2 A1, 3 A2, 4 A3, 5 A4, 6 NC, 7 GND, 8 OE, 9 NC, 10 B4, 11 B3, 12 B2, 13 B1, 14 VCCB

## TXS0104EPWR
designator IC?
4-Bit Bidirectional Voltage-Level Translator For Open-Drain and Push-Pull Applications; Manu Part #: TXS0104EPWR; LCSC Part #: C44955
footprint TXB0104PWR
pins: 1 VCCA, 2 A1, 3 A2, 4 A3, 5 A4, 6 NC, 7 GND, 8 OE, 9 NC, 10 B4, 11 B3, 12 B2, 13 B1, 14 VCCB

## WJ301V-5.0-02P-12-00A
designator J?
2 Position Wire to Board Terminal Block Through Hole 5mm; Manu Part #: WJ301V-5.0-02P-12-00A; LCSC Part #: C8475
footprint WJ301V-5_0-2P
pins: 1, 2

## XC32M4-24.000-F12NJDTL
designator Y?, comment 24MHz,10ppm
Crystal 24MHz ±10ppm 12pF 50Ω SMD3225-4P; Manu Part #: XC32M4-24.000-F12NJDTL; LCSC Part #: C5122304
footprint CRYSTAL-SMD_4P-L3.2-W2.5-BL
pins: 1 IN/OUT, 2 GND, 3 OUT/IN, 4 GND

## XT60PW-F_C428722
designator *
Horizontal plug Yellow - Power connector / plug connector; Manu Part #: XT60PW-F; LCSC Part #: C428722
footprint XT60PW-F_C428722
pins: 1, 2, 3 +, 4 -

## YAGEO CC0603KRX7R9BB104
designator C?, comment 0603,X7R,100nF,50V,10%
100nF ±10% 50V Ceramic Capacitor X7R 0603; Manu Part #: CC0603KRX7R9BB104; LCSC Part #: C14663
footprint CAPC1608X90N
pins: 1, 2